# EAGLE library part 6P6C (library MStar-WLAN)
Kycon GLX-N-66 BLX-N-66 Wurth 615006138421
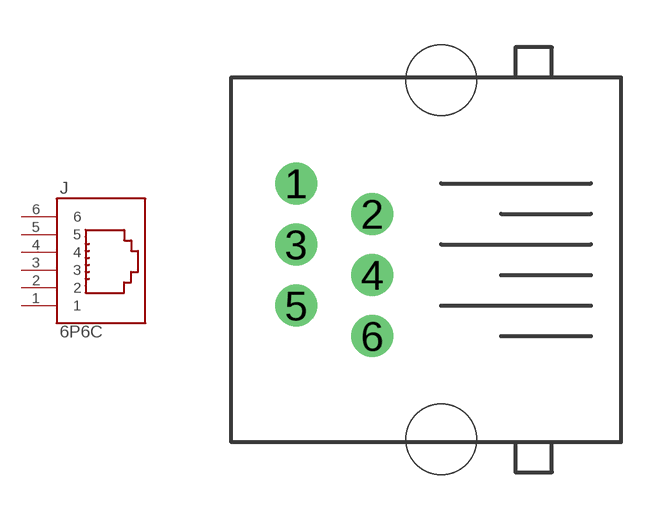
[diagram p12: symbol with the pads of 6P6C; footprint 6P6C]

Designator prefix J

## 6P6C  [6P6C]
1  1  pas
2  2  pas
3  3  pas
4  4  pas
5  5  pas
6  6  pas

## Footprint 6P6C (pad centres in mm)
6P6C Jack, tab up, Kycon or Wurth
drill 0.9: 1 -5.76,2.55; 2 -3.22,1.53; 3 -5.76,0.51; 4 -3.22,-0.51; 5 -5.76,-1.53; 6 -3.22,-2.55
hole 2.36 at -0.92,-6
hole 2.36 at -0.92,6